# EAGLE library part MICRO-USB-F-MOLEX (library PonLib)
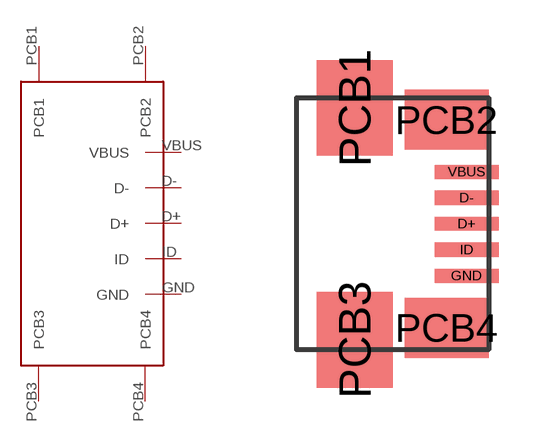
[diagram p11: symbol with the pads of MICRO-USB-F-MOLEX; footprint MICRO-USB-F-MOLEX]

Designator prefix -

## MICRO-USB-F-MOLEX  [MICRO-USB-F-MOLEX]
D+  D+
D-  D-
GND  GND
ID  ID
PCB1  PCB1
PCB2  PCB2
PCB3  PCB3
PCB4  PCB4
VBUS  VBUS

## Footprint MICRO-USB-F-MOLEX (pad centres in mm)
smd 1.6 x 0.35: D+ 2.8,0; D- 2.8,0.65; GND 2.8,-1.3; ID 2.8,-0.65; VBUS 2.8,1.3
smd 1.9 x 2.4: PCB1 0,2.9; PCB3 0,-2.9
smd 2.1 x 1.5: PCB2 2.3,2.6; PCB4 2.3,-2.6